# EAGLE library part AS5600 (library austriamicrosystems)
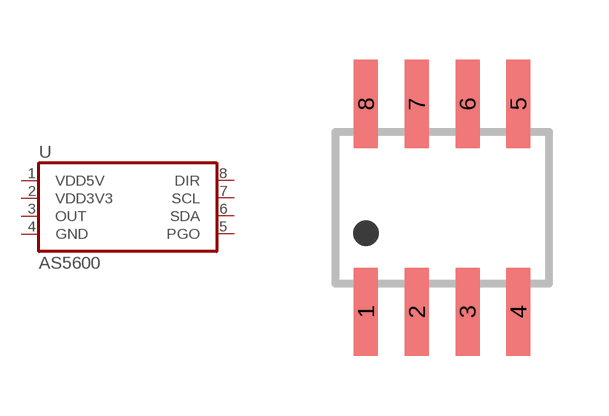
[diagram p5: symbol with the pads of SOIC-8; footprint SOIC-8]

Designator prefix -

## AS5600  [SOIC-8]
1  VDD5V  pwr
2  VDD3V3  pwr
3  OUT
4  GND  pwr
5  PGO
6  SDA
7  SCL
8  DIR

## Footprint SOIC-8 (pad centres in mm)
smd 0.6 x 2.2: 1 -1.215,-2.62; 2 0.055,-2.62; 3 1.325,-2.62; 4 2.595,-2.62; 5 2.595,2.58; 6 1.325,2.58; 7 0.055,2.58; 8 -1.215,2.58